# Altium footprint library DP83848x.PcbLib: 1 footprints
Each footprint in its own frame and in the unit in brackets; x right, y up, seen from the top. Pads: shape width x height; smd on the part's side, far side on the other; paste and mask are expansions set on the pad; w line width, h text height; cw(c..) or ccw(c..) is an arc to the next point about the centre after c.
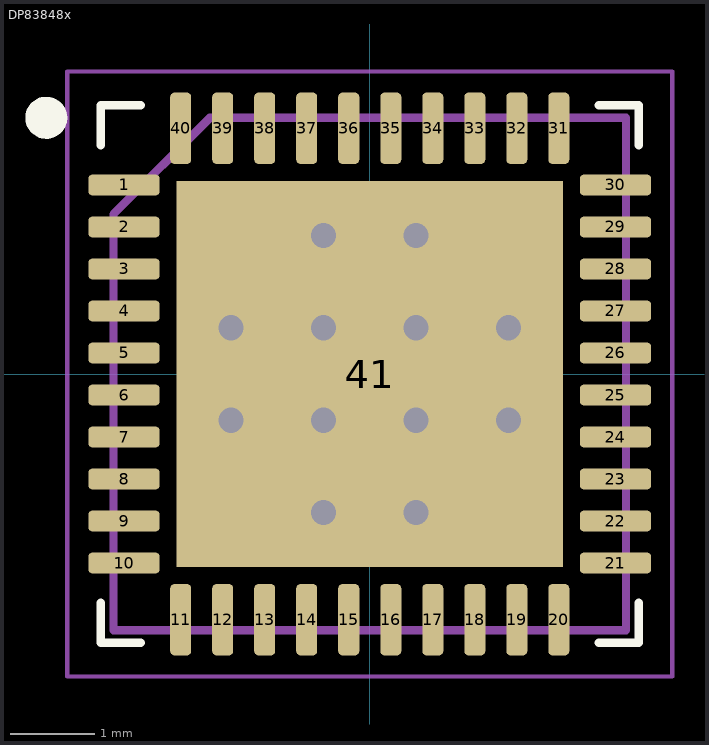
[diagram p0: the footprint, top view; thin cyan lines are the x and y axes]

## DP83848x [mm] "QFN, 40-Leads, Body 6.00x6.00mm, Pitch 0.50mm, Thermal Pad 4.60x4.60mm, IPC Medium Density"
height 0.8
pads (41):
  rrect40% 0.85x0.25 smd mask+0.07: 1(-2.925,2.25) 2(-2.925,1.75) 3(-2.925,1.25) 4(-2.925,0.75) 5(-2.925,0.25) 6(-2.925,-0.25) 7(-2.925,-0.75) 8(-2.925,-1.25) 9(-2.925,-1.75) 10(-2.925,-2.25) 21(2.925,-2.25) 22(2.925,-1.75) 23(2.925,-1.25) 24(2.925,-0.75) 25(2.925,-0.25) 26(2.925,0.25) 27(2.925,0.75) 28(2.925,1.25) 29(2.925,1.75) 30(2.925,2.25)
  rrect40% 0.25x0.85 smd mask+0.07: 11(-2.25,-2.925) 12(-1.75,-2.925) 13(-1.25,-2.925) 14(-0.75,-2.925) 15(-0.25,-2.925) 16(0.25,-2.925) 17(0.75,-2.925) 18(1.25,-2.925) 19(1.75,-2.925) 20(2.25,-2.925) 31(2.25,2.925) 32(1.75,2.925) 33(1.25,2.925) 34(0.75,2.925) 35(0.25,2.925) 36(-0.25,2.925) 37(-0.75,2.925) 38(-1.25,2.925) 39(-1.75,2.925) 40(-2.25,2.925)
  rect 4.6x4.6 smd: 41(0,0)
via -0.55,1.65 diameter 0.45 hole 0.3
via 0.55,1.65 diameter 0.45 hole 0.3
via -1.65,0.55 diameter 0.45 hole 0.3
via -0.55,0.55 diameter 0.45 hole 0.3
via 0.55,0.55 diameter 0.45 hole 0.3
via 1.65,0.55 diameter 0.45 hole 0.3
via -1.65,-0.55 diameter 0.45 hole 0.3
via -0.55,-0.55 diameter 0.45 hole 0.3
via 0.55,-0.55 diameter 0.45 hole 0.3
via 1.65,-0.55 diameter 0.45 hole 0.3
via -0.55,-1.65 diameter 0.45 hole 0.3
via 0.55,-1.65 diameter 0.45 hole 0.3
Top Overlay:
  circle w0.25: c-3.85,3.05 r0.125
  lines w0.1: -3.2,-2.725 -3.2,-3.2 -2.725,-3.2 ; -3.2,2.725 -3.2,3.2 -2.725,3.2 ; 2.725,-3.2 3.2,-3.2 3.2,-2.725 ; 2.725,3.2 3.2,3.2 3.2,2.725
Mechanical 1:
  lines w0.1: -3.05,-3.05 -3.05,1.903 -1.903,3.05 3.05,3.05 3.05,-3.05 -3.05,-3.05
  text ".Designator" at -3.304,-0.293 h0.65
Mechanical 2:
  lines w0.05: -3.6,-3.6 -3.6,3.6 3.6,3.6 3.6,-3.6 -3.6,-3.6
  lines w0.1: -0.5,0 0.5,0 ; 0,-0.5 0,0.5
3D body "DP83848x.step": height 0.8, standoff 0, extent -3.06,-3.06 3.06,3.06